# EAGLE library part 687136182122 (library Eagle_FPC_CONNECTOR_AND_FFC_CAB (rev18c))
CONFPCI - 0.5 MM PITCH HORIZONTAL DUAL CONTACT, BACK FLIP ACTUATOR=>Code : ConFPC Characteristics INSULATOR: LCP FLAMABILITY RATING: UL94-V0 COLOUR: IVORY CONTACT MATERIAL: PHOSPHOR BRONZE CONTACT PLATING: 80 μ’’ MAT TIN OVER 50 μ’’ NICKEL CONTACT TYPE: STAMPED TAB MATERIAL: BRASS TAB PLATING: 80 μ’’ MAT TIN OVER 50 μ’’ NICKEL TAB TYPE: STAMPED ACTUATOR MATERIAL: PA9T ACTUATOR COLOUR: BLACK QUALITY CLASS: 20 MATING CYCLES PITCH: 0.50 MM PACKAGING:TAPE AND REEL COMPLIANCE: ROHS AND HALOGEN FREE OPERATING TEMPERATURE: -40°C UP TO +105°C ELECTRICAL CURRENT RATING: 0.5A WORKING VOLTAGE: 50 VAC WITHSTANDING VOLTAGE: 0.25 KVAC/min CONTATC RESISTANCE: 30 mOHM INSULATION RESISTANCE: >500 MΩ <http://katalog.we-online.de/media/images/v2/Family_WR-FPC_687186182122.jpg> 2016 (C) Wurth Elektronik
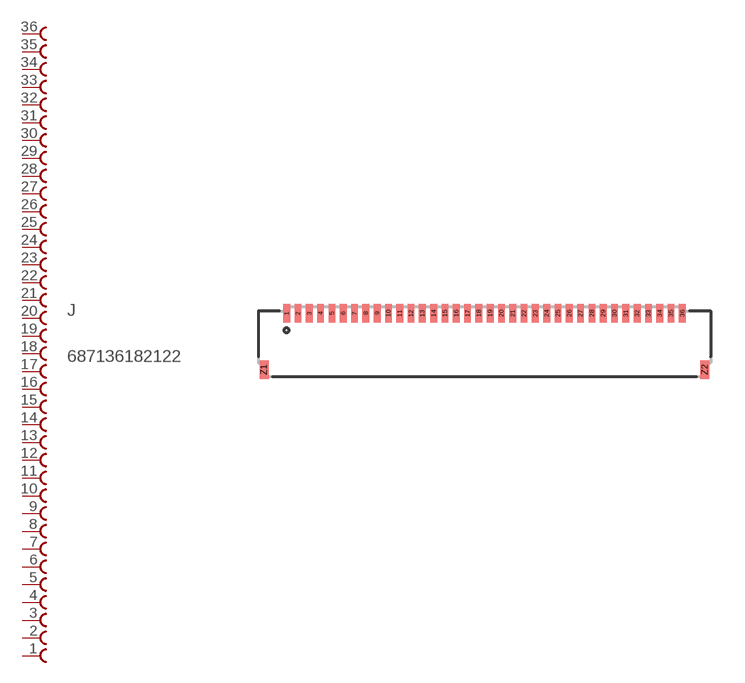
[diagram p143: symbol with the pads of 687136182122; footprint 687136182122]

Designator prefix J

## 687136182122  [687136182122]
1  36  pas
2  35  pas
3  34  pas
4  33  pas
5  32  pas
6  31  pas
7  30  pas
8  29  pas
9  28  pas
10  27  pas
11  26  pas
12  25  pas
13  24  pas
14  23  pas
15  22  pas
16  21  pas
17  20  pas
18  19  pas
19  18  pas
20  17  pas
21  16  pas
22  15  pas
23  14  pas
24  13  pas
25  12  pas
26  11  pas
27  10  pas
28  9  pas
29  8  pas
30  7  pas
31  6  pas
32  5  pas
33  4  pas
34  3  pas
35  2  pas
36  1  pas

## Footprint 687136182122 (pad centres in mm)
smd 0.3 x 0.8: 1 -8.75,1.25; 2 -8.25,1.25; 3 -7.75,1.25; 4 -7.25,1.25; 5 -6.75,1.25; 6 -6.25,1.25; 7 -5.75,1.25; 8 -5.25,1.25; 9 -4.75,1.25; 10 -4.25,1.25; 11 -3.75,1.25; 12 -3.25,1.25; 13 -2.75,1.25; 14 -2.25,1.25; 15 -1.75,1.25; 16 -1.25,1.25; 17 -0.75,1.25; 18 -0.25,1.25; 19 0.25,1.25; 20 0.75,1.25; 21 1.25,1.25; 22 1.75,1.25; 23 2.25,1.25; 24 2.75,1.25; 25 3.25,1.25; 26 3.75,1.25; 27 4.25,1.25; 28 4.75,1.25; 29 5.25,1.25; 30 5.75,1.25; 31 6.25,1.25; 32 6.75,1.25; 33 7.25,1.25; 34 7.75,1.25; 35 8.25,1.25; 36 8.75,1.25
smd 0.4 x 0.8: Z1 -9.75,-1.25; Z2 9.75,-1.25